# EAGLE library part PH07 (library wb-pinheader)
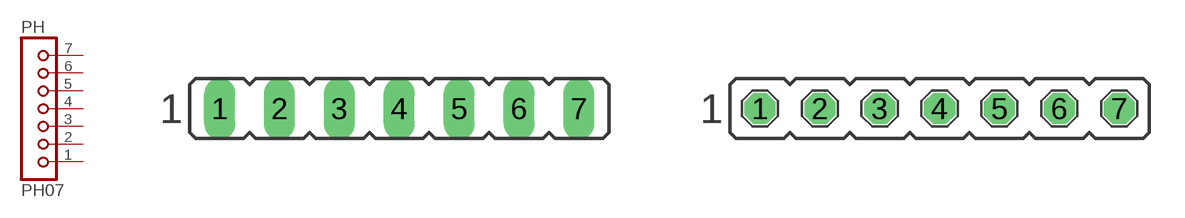
[diagram p0: symbol with the pads of 7PIN-L; footprints 7PIN-L, 7PIN-OCT]

Designator prefix PH

## PH07L  [7PIN-L]
1  1  pas
2  2  pas
3  3  pas
4  4  pas
5  5  pas
6  6  pas
7  7  pas

## PH07OCT  [7PIN-OCT]
Pads as for 7PIN-L

## Footprint 7PIN-L (pad centres in mm)
drill 0.813 long: 1 -7.62,0; 2 -5.08,0; 3 -2.54,0; 4 0,0; 5 2.54,0; 6 5.08,0; 7 7.62,0

## Footprint 7PIN-OCT (pad centres in mm)
drill 0.813 octagon: 1 -7.62,0; 2 -5.08,0; 3 -2.54,0; 4 0,0; 5 2.54,0; 6 5.08,0; 7 7.62,0